# Altium footprint library QFN - QuadFlatNo-lead.PcbLib: 30 footprints (part 1 of 2)
Each footprint in its own frame and in the unit in brackets; x right, y up, seen from the top. Pads: shape width x height; smd on the part's side, far side on the other; paste and mask are expansions set on the pad; w line width, h text height; cw(c..) or ccw(c..) is an arc to the next point about the centre after c.
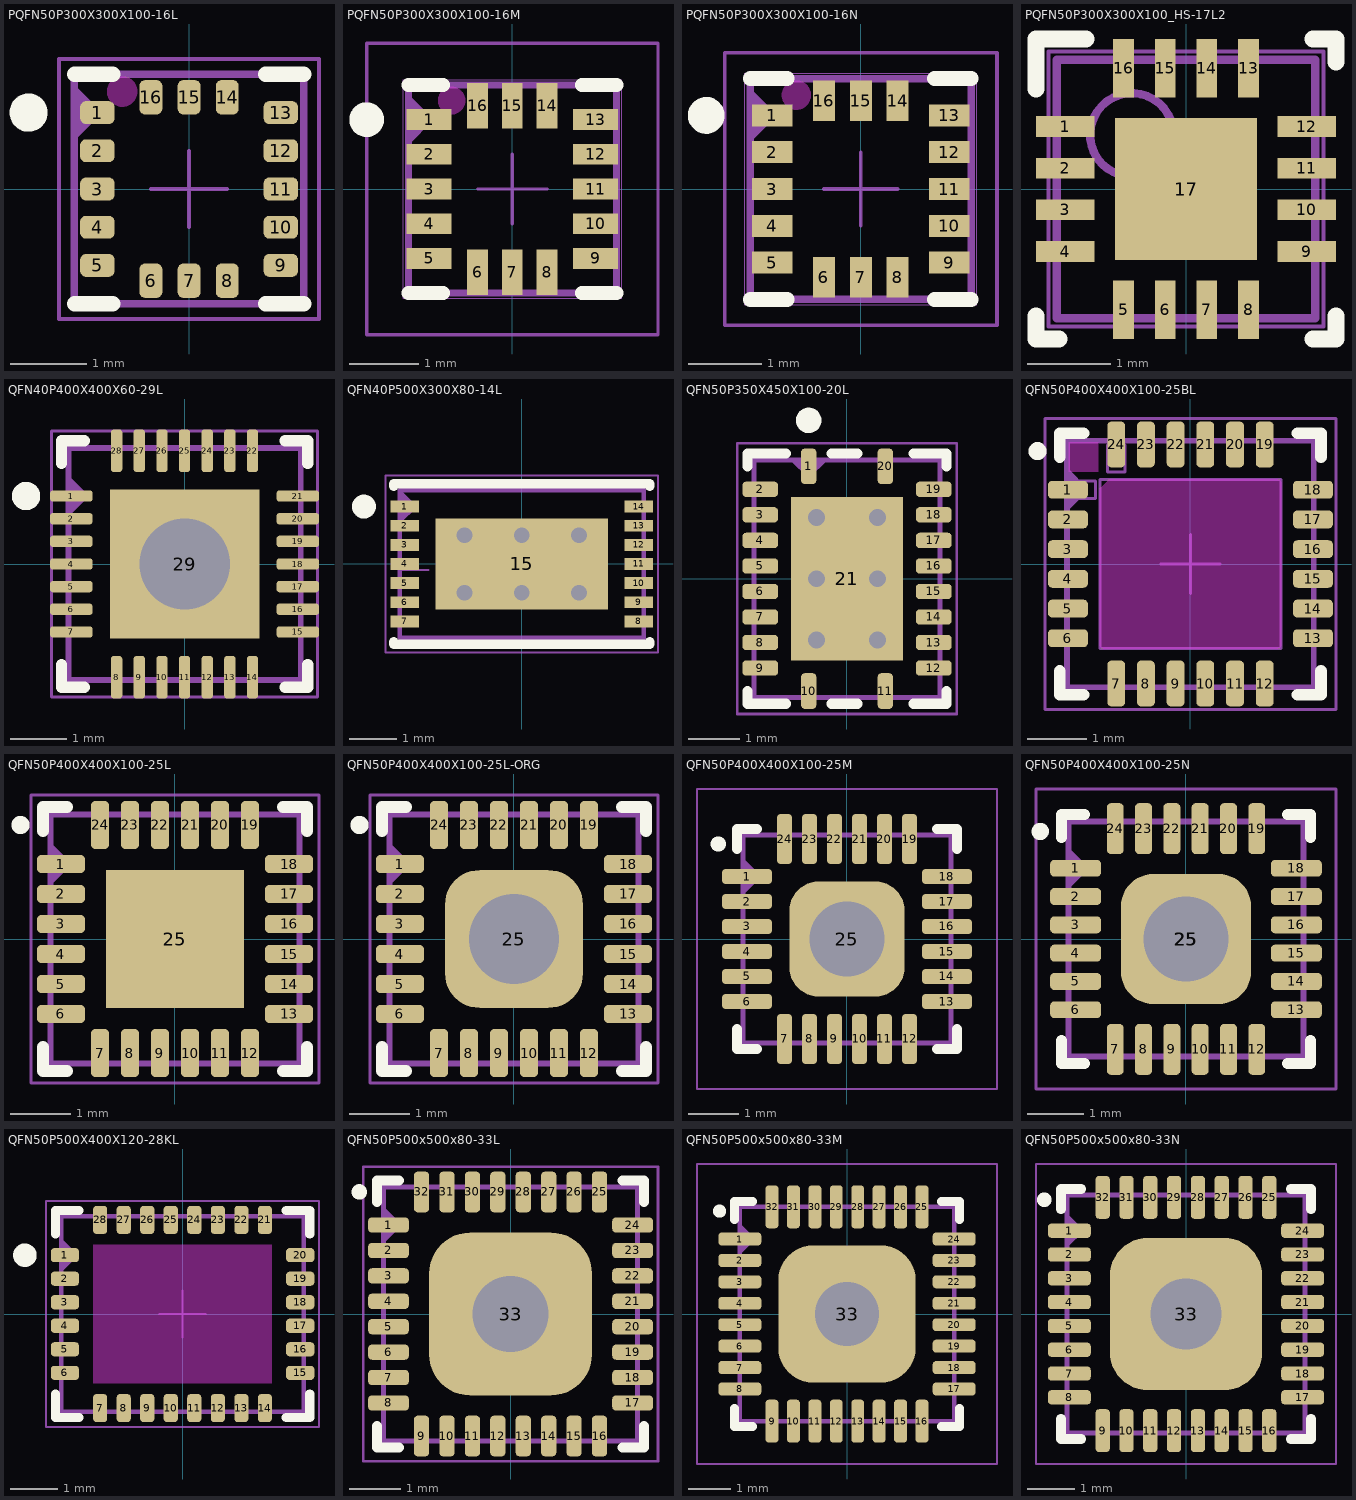
[diagram p0: the footprints below, top view; thin cyan lines are the x and y axes]

## PQFN50P300X300X100-16L [mm]
pads (16):
  rrect50% 0.45x0.3 smd: 1(-1.2,1) 2(-1.2,0.5) 3(-1.2,0) 4(-1.2,-0.5) 5(-1.2,-1) 9(1.2,-1) 10(1.2,-0.5) 11(1.2,0) 12(1.2,0.5) 13(1.2,1)
  rrect50% 0.3x0.45 smd: 6(-0.5,-1.2) 7(0,-1.2) 8(0.5,-1.2) 14(0.5,1.2) 15(0,1.2) 16(-0.5,1.2)
Top Layer keep-out:
  circle w0.2: c-0.875,1.275 r0.1
Top Overlay:
  circle w0.25: c-2.1,1 r0.125
  lines w0.2: -1.5,-1.5 -1,-1.5 ; -1.5,1.5 -1,1.5 ; 1,-1.5 1.5,-1.5 ; 1,1.5 1.5,1.5
TopBody:
  lines w0.1: -1.5,0.7 -1.2,1 -1.5,1.3 ; -1.5,0.8 -1.3,1 -1.5,1.2 ; -1.5,0.9 -1.4,1 -1.5,1.1 ; -1.5,-1.5 1.5,-1.5 1.5,1.5 -1.5,1.5 -1.5,-1.5
TopCourtyard:
  lines w0.05: -0.5,0 0,0 ; 0,-0.5 0,0 ; 0,0.5 0,0 ; 0.5,0 0,0 ; -1.7,-1.7 1.7,-1.7 1.7,1.7 -1.7,1.7 -1.7,-1.7
3D body: height 1, standoff 0, extent -1.5,-1.5 1.5,1.5

## PQFN50P300X300X100-16M [mm]
pads (16):
  rect 0.65x0.3 smd: 1(-1.2,1) 2(-1.2,0.5) 3(-1.2,0) 4(-1.2,-0.5) 5(-1.2,-1) 9(1.2,-1) 10(1.2,-0.5) 11(1.2,0) 12(1.2,0.5) 13(1.2,1)
  rect 0.3x0.65 smd: 6(-0.5,-1.2) 7(0,-1.2) 8(0.5,-1.2) 14(0.5,1.2) 15(0,1.2) 16(-0.5,1.2)
Top Layer keep-out:
  circle w0.2: c-0.875,1.275 r0.1
Top Overlay:
  circle w0.25: c-2.1,1 r0.125
  lines w0.2: -1.5,-1.5 -1,-1.5 ; -1.5,1.5 -1,1.5 ; 1,-1.5 1.5,-1.5 ; 1,1.5 1.5,1.5
TopBody:
  lines w0.1: -1.5,0.7 -1.2,1 -1.5,1.3 ; -1.5,0.8 -1.3,1 -1.5,1.2 ; -1.5,0.9 -1.4,1 -1.5,1.1 ; -1.5,-1.5 -1.5,1.5 1.5,1.5 1.5,-1.5 -1.5,-1.5
TopCourtyard:
  lines w0.05: -0.5,0 0,0 ; 0,-0.5 0,0 ; 0,0.5 0,0 ; 0.5,0 0,0 ; -2.1,-2.1 -2.1,2.1 2.1,2.1 2.1,-2.1 -2.1,-2.1
Mechanical 21:
  lines w0.001: -1.575,-1.575 -1.575,1.575 1.575,1.575 1.575,-1.575 -1.575,-1.575
3D body: height 1, standoff 0, extent -1.5,-1.5 1.5,1.5

## PQFN50P300X300X100-16N [mm]
pads (16):
  rect 0.55x0.3 smd: 1(-1.2,1) 2(-1.2,0.5) 3(-1.2,0) 4(-1.2,-0.5) 5(-1.2,-1) 9(1.2,-1) 10(1.2,-0.5) 11(1.2,0) 12(1.2,0.5) 13(1.2,1)
  rect 0.3x0.55 smd: 6(-0.5,-1.2) 7(0,-1.2) 8(0.5,-1.2) 14(0.5,1.2) 15(0,1.2) 16(-0.5,1.2)
Top Layer keep-out:
  circle w0.2: c-0.875,1.275 r0.1
Top Overlay:
  circle w0.25: c-2.1,1 r0.125
  lines w0.2: -1.5,-1.5 -1,-1.5 ; -1.5,1.5 -1,1.5 ; 1,-1.5 1.5,-1.5 ; 1,1.5 1.5,1.5
TopBody:
  lines w0.1: -1.5,0.7 -1.2,1 -1.5,1.3 ; -1.5,0.8 -1.3,1 -1.5,1.2 ; -1.5,0.9 -1.4,1 -1.5,1.1 ; -1.5,-1.5 -1.5,1.5 1.5,1.5 1.5,-1.5 -1.5,-1.5
TopCourtyard:
  lines w0.05: -0.5,0 0,0 ; 0,-0.5 0,0 ; 0,0.5 0,0 ; 0.5,0 0,0 ; -1.85,-1.85 -1.85,1.85 1.85,1.85 1.85,-1.85 -1.85,-1.85
Mechanical 21:
  lines w0.001: -1.575,-1.575 -1.575,1.575 1.575,1.575 1.575,-1.575 -1.575,-1.575
3D body: height 1, standoff 0, extent -1.5,-1.5 1.5,1.5

## PQFN50P300X300X100_HS-17L2 [mm] "PQFN, 16-Leads, Body 3.00x3.00mm, Pitch 0.50mm, Thermal Pad 1.70x1.70mm, IPC High Density"
height 1
pads (17):
  rect 0.7x0.25 smd: 1(-1.45,0.75) 2(-1.45,0.25) 3(-1.45,-0.25) 4(-1.45,-0.75) 9(1.45,-0.75) 10(1.45,-0.25) 11(1.45,0.25) 12(1.45,0.75)
  rect 0.25x0.7 smd: 5(-0.75,-1.45) 6(-0.25,-1.45) 7(0.25,-1.45) 8(0.75,-1.45) 13(0.75,1.45) 14(0.25,1.45) 15(-0.25,1.45) 16(-0.75,1.45)
  rect 1.7x1.7 smd: 17(0,0)
Top Overlay:
  lines w0.2: -1.8,-1.525 -1.8,-1.8 -1.525,-1.8 ; -1.8,1.2 -1.8,1.8 -1.2,1.8 ; 1.525,-1.8 1.8,-1.8 1.8,-1.525 ; 1.525,1.8 1.8,1.8 1.8,1.525
TopBody:
  circle w0.1: c-0.65,0.65 r0.5
  lines w0.1: -1.55,-1.55 -1.55,1.55 1.55,1.55 1.55,-1.55 -1.55,-1.55
TopCourtyard:
  lines w0.05: -1.65,-1.65 -1.65,1.65 1.65,1.65 1.65,-1.65 -1.65,-1.65
  lines w0.1: -0.5,0 0.5,0 ; 0,-0.5 0,0.5
3D body "PQFN50P300X300X100_HS-17L2.step": height 1, standoff 0, extent -1.55,-1.55 1.55,1.55

## QFN40P400X400X60-29L [mm] "QFN, 29-Leads with tab, Body 4.1x4.1mm (max), Pitch 0.40mm, IPC High Density"
height 0.6
pads (29):
  rrect50% 0.75x0.2 smd mask+0.05: 1(-2,1.2) 2(-2,0.8) 3(-2,0.4) 4(-2,0) 5(-2,-0.4) 6(-2,-0.8) 7(-2,-1.2) 15(2,-1.2) 16(2,-0.8) 17(2,-0.4) 18(2,0) 19(2,0.4) 20(2,0.8) 21(2,1.2)
  rrect50% 0.2x0.75 smd mask+0.05: 8(-1.2,-2) 9(-0.8,-2) 10(-0.4,-2) 11(0,-2) 12(0.4,-2) 13(0.8,-2) 14(1.2,-2) 22(1.2,2) 23(0.8,2) 24(0.4,2) 25(0,2) 26(-0.4,2) 27(-0.8,2) 28(-1.2,2)
  rect 2.64x2.64 smd mask+0.05: 29(0,0)
via 0,0 diameter 2 hole 1.6
Top Overlay:
  circle w0.25: c-2.8,1.2 r0.125
  lines w0.2: -2.175,-1.775 -2.175,-2.175 -1.775,-2.175 ; -2.175,1.775 -2.175,2.175 -1.775,2.175 ; 1.775,-2.175 2.175,-2.175 2.175,-1.775 ; 1.775,2.175 2.175,2.175 2.175,1.775
TopBody:
  lines w0.1: -2.05,0.9 -1.75,1.2 -2.05,1.5 ; -2.05,1 -1.85,1.2 -2.05,1.4 ; -2.05,1.1 -1.95,1.2 -2.05,1.3 ; -2.05,-2.05 2.05,-2.05 2.05,2.05 -2.05,2.05 -2.05,-2.05
TopCourtyard:
  lines w0.05: -0.5,0 0,0 ; 0,-0.5 0,0 ; 0,0.5 0,0 ; 0.5,0 0,0 ; -2.35,-2.35 2.35,-2.35 2.35,2.35 -2.35,2.35 -2.35,-2.35
3D body: height 0.6, standoff 0.05, extent -2.05,-2.05 2.05,2.05

## QFN40P500X300X80-14L [mm] "QFN, 14-Leads, Body 3.1x5.1mm (max), Pitch 0.40mm, IPC High Density"
height 0.8
pads (15):
  rect 0.6x0.25 smd: 1(-2.45,1.2) 2(-2.45,0.8) 3(-2.45,0.4) 4(-2.45,0) 5(-2.45,-0.4) 6(-2.45,-0.8) 7(-2.45,-1.2) 8(2.45,-1.2) 9(2.45,-0.8) 10(2.45,-0.4) 11(2.45,0) 12(2.45,0.4) 13(2.45,0.8) 14(2.45,1.2)
  rect 3.6x1.9 smd: 15(0,0)
via 1.2,-0.6 diameter 0.66 hole 0.33
via 0,-0.6 diameter 0.66 hole 0.33
via -1.2,-0.6 diameter 0.66 hole 0.33
via 1.2,0.6 diameter 0.66 hole 0.33
via 0,0.6 diameter 0.66 hole 0.33
via -1.2,0.6 diameter 0.66 hole 0.33
Top Overlay:
  circle w0.25: c-3.3,1.2 r0.125
  lines w0.2: -2.675,-1.625 -2.675,-1.675 2.675,-1.675 2.675,-1.625 ; -2.675,1.625 -2.675,1.675 2.675,1.675 2.675,1.625
Notes:
  lines w0.05: -2.55,0.125 -2.55,-0.125 -1.95,-0.125
TopBody:
  lines w0.1: -2.55,0.9 -2.25,1.2 -2.55,1.5 ; -2.55,1 -2.35,1.2 -2.55,1.4 ; -2.55,1.1 -2.45,1.2 -2.55,1.3 ; -2.55,-1.55 2.55,-1.55 2.55,1.55 -2.55,1.55 -2.55,-1.55
TopCourtyard:
  lines w0.05: -0.5,0 0.5,0 ; 0,-0.5 0,0.5 ; -2.85,-1.85 2.85,-1.85 2.85,1.85 -2.85,1.85 -2.85,-1.85
3D body: height 0.8, standoff 0.1, extent -2.55,-1.55 2.55,1.55

## QFN50P350X450X100-20L [mm] "QFN, 20-Leads, Body 4.7x3.7mm (max), Pitch 1.50mm, Pitch1 0.50mm, IPC High Density"
height 1
pads (21):
  rrect50% 0.3x0.7 smd: 1(-0.75,2.2) 10(-0.75,-2.2) 11(0.75,-2.2) 20(0.75,2.2)
  rrect50% 0.7x0.3 smd: 2(-1.7,1.75) 3(-1.7,1.25) 4(-1.7,0.75) 5(-1.7,0.25) 6(-1.7,-0.25) 7(-1.7,-0.75) 8(-1.7,-1.25) 9(-1.7,-1.75) 12(1.7,-1.75) 13(1.7,-1.25) 14(1.7,-0.75) 15(1.7,-0.25) 16(1.7,0.25) 17(1.7,0.75) 18(1.7,1.25) 19(1.7,1.75)
  rect 2.2x3.2 smd: 21(0,0)
via 0.6,-1.2 diameter 0.66 hole 0.33
via -0.6,-1.2 diameter 0.66 hole 0.33
via 0.6,0 diameter 0.66 hole 0.33
via -0.6,0 diameter 0.66 hole 0.33
via 0.6,1.2 diameter 0.66 hole 0.33
via -0.6,1.2 diameter 0.66 hole 0.33
Top Overlay:
  circle w0.25: c-0.75,3.1 r0.125
  lines w0.2: -1.95,-2.2 -1.95,-2.45 -1.2,-2.45 ; -1.95,2.2 -1.95,2.45 -1.2,2.45 ; -0.3,-2.45 0.2,-2.45 ; -0.3,2.45 0.2,2.45 ; 1.3,-2.45 1.95,-2.45 1.95,-2.2 ; 1.3,2.45 1.95,2.45 1.95,2.2
TopBody:
  lines w0.1: -1.05,2.325 -0.75,2.025 -0.45,2.325 ; -0.95,2.325 -0.75,2.125 -0.55,2.325 ; -0.85,2.325 -0.75,2.225 -0.65,2.325 ; -1.825,-2.325 1.825,-2.325 1.825,2.325 -1.825,2.325 -1.825,-2.325
TopCourtyard:
  lines w0.05: -0.5,0 0,0 ; 0,-0.5 0,0 ; 0,0.5 0,0 ; 0.5,0 0,0 ; -2.15,-2.65 2.15,-2.65 2.15,2.65 -2.15,2.65 -2.15,-2.65
3D body: height 1, standoff 0.05, extent -1.825,-2.325 1.825,2.325

## QFN50P400X400X100-25BL [mm] "QFN, 25-Leads with tab, Body 4x4x1mm, Pitch 0.5mm, IPC High Density, Special IMU-3000 InvenSense"
height 1
pads (24):
  rrect50% 0.675x0.3 smd: 1(-2.063,1.25) 2(-2.063,0.75) 3(-2.063,0.25) 4(-2.063,-0.25) 5(-2.063,-0.75) 6(-2.063,-1.25) 13(2.063,-1.25) 14(2.063,-0.75) 15(2.063,-0.25) 16(2.063,0.25) 17(2.063,0.75) 18(2.063,1.25)
  rrect50% 0.3x0.775 smd: 7(-1.25,-2.013) 8(-0.75,-2.013) 9(-0.25,-2.013) 10(0.25,-2.013) 11(0.75,-2.013) 12(1.25,-2.013) 19(1.25,2.013) 20(0.75,2.013) 21(0.25,2.013) 22(-0.25,2.013) 23(-0.75,2.013) 24(-1.25,2.013)
Top Layer keep-out:
  rectangle: -2.05,1.55 -1.55,2.05
  region: -1.525,1.265 -1.365,1.425 1.475,1.429 1.513,1.413 1.529,1.375 1.525,1.375 1.529,-1.375 1.513,-1.413 1.475,-1.429 1.475,-1.425 -1.475,-1.429 -1.513,-1.413 -1.529,-1.375 -1.525,-1.375
Top Overlay:
  circle w0.254: c-2.575,1.9 r0.025
  lines w0.2: -2.2,-1.8 -2.2,-2.2 -1.8,-2.2 ; -2.2,1.8 -2.2,2.2 -1.8,2.2 ; 1.8,-2.2 2.2,-2.2 2.2,-1.8 ; 1.8,2.2 2.2,2.2 2.2,1.8
Notes:
  lines w0.05: -2,1.1 -1.6,1.1 -1.6,1.4 -2,1.4 -2,1.1 ; -1.525,-1.425 1.525,-1.425 1.525,1.425 -1.525,1.425 -1.525,-1.425 ; -1.4,1.55 -1.4,2 -1.1,2 -1.1,1.55 -1.4,1.55
TopBody:
  lines w0.1: -2.075,0.95 -1.775,1.25 -2.075,1.55 ; -2.075,1.05 -1.875,1.25 -2.075,1.45 ; -2.075,1.15 -1.975,1.25 -2.075,1.35 ; -2.075,-2.075 2.075,-2.075 2.075,2.075 -2.075,2.075 -2.075,-2.075
TopCourtyard:
  lines w0.05: -0.5,0 0,0 ; 0,-0.5 0,0 ; 0,0.5 0,0 ; 0.5,0 0,0 ; -2.45,-2.45 2.45,-2.45 2.45,2.45 -2.45,2.45 -2.45,-2.45
3D body: height 1, standoff 0, extent -2.075,-2.075 2.075,2.075

## QFN50P400X400X100-25L [mm] "QFN, 25-Leads with tab, Body 4x4x1mm, Pitch 0.5mm, IPC High Density"
height 1
pads (25):
  rrect50% 0.8x0.3 smd: 1(-1.9,1.25) 2(-1.9,0.75) 3(-1.9,0.25) 4(-1.9,-0.25) 5(-1.9,-0.75) 6(-1.9,-1.25) 13(1.9,-1.25) 14(1.9,-0.75) 15(1.9,-0.25) 16(1.9,0.25) 17(1.9,0.75) 18(1.9,1.25)
  rrect50% 0.3x0.8 smd: 7(-1.25,-1.9) 8(-0.75,-1.9) 9(-0.25,-1.9) 10(0.25,-1.9) 11(0.75,-1.9) 12(1.25,-1.9) 19(1.25,1.9) 20(0.75,1.9) 21(0.25,1.9) 22(-0.25,1.9) 23(-0.75,1.9) 24(-1.25,1.9)
  rect 2.3x2.3 smd paste-2: 25(0,0)
Top Overlay:
  circle w0.254: c-2.575,1.9 r0.025
  lines w0.2: -2.2,-1.8 -2.2,-2.2 -1.8,-2.2 ; -2.2,1.8 -2.2,2.2 -1.8,2.2 ; 1.8,-2.2 2.2,-2.2 2.2,-1.8 ; 1.8,2.2 2.2,2.2 2.2,1.8
Top Paste:
  region: -0.15,1.1 -1.1,1.1 -1.1,0.15 -0.15,0.15
  rectangle: 0.15,0.15 1.1,1.1
  rectangle: 0.15,-1.1 1.1,-0.15
  region: -0.15,-0.15 -1.1,-0.15 -1.1,-1.1 -0.15,-1.1
TopBody:
  lines w0.1: -2.075,0.95 -1.775,1.25 -2.075,1.55 ; -2.075,1.05 -1.875,1.25 -2.075,1.45 ; -2.075,1.15 -1.975,1.25 -2.075,1.35 ; -2.075,-2.075 -2.075,2.075 2.075,2.075 2.075,-2.075 -2.075,-2.075
TopCourtyard:
  lines w0.05: -0.5,0 0,0 ; 0,-0.5 0,0 ; 0,0.5 0,0 ; 0.5,0 0,0 ; -2.4,-2.4 -2.4,2.4 2.4,2.4 2.4,-2.4 -2.4,-2.4
3D body: height 1, standoff 0, extent -2.075,-2.075 2.075,2.075

## QFN50P400X400X100-25L-ORG [mm] "QFN, 25-Leads with tab, Body 4x4x1mm, Pitch 0.5mm, IPC High Density"
height 1
pads (25):
  rrect50% 0.8x0.3 smd: 1(-1.9,1.25) 2(-1.9,0.75) 3(-1.9,0.25) 4(-1.9,-0.25) 5(-1.9,-0.75) 6(-1.9,-1.25) 13(1.9,-1.25) 14(1.9,-0.75) 15(1.9,-0.25) 16(1.9,0.25) 17(1.9,0.75) 18(1.9,1.25)
  rrect50% 0.3x0.8 smd: 7(-1.25,-1.9) 8(-0.75,-1.9) 9(-0.25,-1.9) 10(0.25,-1.9) 11(0.75,-1.9) 12(1.25,-1.9) 19(1.25,1.9) 20(0.75,1.9) 21(0.25,1.9) 22(-0.25,1.9) 23(-0.75,1.9) 24(-1.25,1.9)
  rrect50% 2.3x2.3 / inner round 2.3 / far side round 2.3 hole 1.5: 25(0,0)
Top Overlay:
  circle w0.254: c-2.575,1.9 r0.025
  lines w0.2: -2.2,-1.8 -2.2,-2.2 -1.8,-2.2 ; -2.2,1.8 -2.2,2.2 -1.8,2.2 ; 1.8,-2.2 2.2,-2.2 2.2,-1.8 ; 1.8,2.2 2.2,2.2 2.2,1.8
TopBody:
  lines w0.1: -2.075,0.95 -1.775,1.25 -2.075,1.55 ; -2.075,1.05 -1.875,1.25 -2.075,1.45 ; -2.075,1.15 -1.975,1.25 -2.075,1.35 ; -2.075,-2.075 2.075,-2.075 2.075,2.075 -2.075,2.075 -2.075,-2.075
TopCourtyard:
  lines w0.05: -0.5,0 0,0 ; 0,-0.5 0,0 ; 0,0.5 0,0 ; 0.5,0 0,0 ; -2.4,-2.4 2.4,-2.4 2.4,2.4 -2.4,2.4 -2.4,-2.4
3D body: height 1, standoff 0, extent -2.075,-2.075 2.075,2.075

## QFN50P400X400X100-25M [mm] "QFN, 25-Leads with tab, Body 4x4x1mm, Pitch 0.5mm, IPC Low Density"
height 1
pads (25):
  rrect50% 1x0.3 smd: 1(-2,1.25) 2(-2,0.75) 3(-2,0.25) 4(-2,-0.25) 5(-2,-0.75) 6(-2,-1.25) 13(2,-1.25) 14(2,-0.75) 15(2,-0.25) 16(2,0.25) 17(2,0.75) 18(2,1.25)
  rrect50% 0.3x1 smd: 7(-1.25,-2) 8(-0.75,-2) 9(-0.25,-2) 10(0.25,-2) 11(0.75,-2) 12(1.25,-2) 19(1.25,2) 20(0.75,2) 21(0.25,2) 22(-0.25,2) 23(-0.75,2) 24(-1.25,2)
  rrect50% 2.3x2.3 / inner round 2.3 / far side round 2.3 hole 1.5: 25(0,0)
Top Overlay:
  circle w0.254: c-2.575,1.9 r0.025
  lines w0.2: -2.2,-1.8 -2.2,-2.2 -1.8,-2.2 ; -2.2,1.8 -2.2,2.2 -1.8,2.2 ; 1.8,-2.2 2.2,-2.2 2.2,-1.8 ; 1.8,2.2 2.2,2.2 2.2,1.8
TopBody:
  lines w0.1: -2.075,0.95 -1.775,1.25 -2.075,1.55 ; -2.075,1.05 -1.875,1.25 -2.075,1.45 ; -2.075,1.15 -1.975,1.25 -2.075,1.35 ; -2.075,-2.075 -2.075,2.075 2.075,2.075 2.075,-2.075 -2.075,-2.075
TopCourtyard:
  lines w0.05: -0.5,0 0,0 ; 0,-0.5 0,0 ; 0,0.5 0,0 ; 0.5,0 0,0 ; -3,-3 -3,3 3,3 3,-3 -3,-3
3D body: height 1, standoff 0, extent -2.075,-2.075 2.075,2.075

## QFN50P400X400X100-25N [mm] "QFN, 25-Leads with tab, Body 4x4x1mm, Pitch 0.5mm, IPC Medium Density"
height 1
pads (26):
  rrect50% 0.9x0.3 smd: 1(-1.95,1.25) 2(-1.95,0.75) 3(-1.95,0.25) 4(-1.95,-0.25) 5(-1.95,-0.75) 6(-1.95,-1.25) 13(1.95,-1.25) 14(1.95,-0.75) 15(1.95,-0.25) 16(1.95,0.25) 17(1.95,0.75) 18(1.95,1.25)
  rrect50% 0.3x0.9 smd: 7(-1.25,-1.95) 8(-0.75,-1.95) 9(-0.25,-1.95) 10(0.25,-1.95) 11(0.75,-1.95) 12(1.25,-1.95) 19(1.25,1.95) 20(0.75,1.95) 21(0.25,1.95) 22(-0.25,1.95) 23(-0.75,1.95) 24(-1.25,1.95)
  rrect50% 2.3x2.3 / inner round 2.3 / far side round 2.3 hole 1.5: 25(0,0)
  rrect50% 2.3x2.3 smd: 25(0,0)
Top Overlay:
  circle w0.254: c-2.575,1.9 r0.025
  lines w0.2: -2.2,-1.8 -2.2,-2.2 -1.8,-2.2 ; -2.2,1.8 -2.2,2.2 -1.8,2.2 ; 1.8,-2.2 2.2,-2.2 2.2,-1.8 ; 1.8,2.2 2.2,2.2 2.2,1.8
TopBody:
  lines w0.1: -2.075,0.95 -1.775,1.25 -2.075,1.55 ; -2.075,1.05 -1.875,1.25 -2.075,1.45 ; -2.075,1.15 -1.975,1.25 -2.075,1.35 ; -2.075,-2.075 2.075,-2.075 2.075,2.075 -2.075,2.075 -2.075,-2.075
TopCourtyard:
  lines w0.05: -0.5,0 0,0 ; 0,-0.5 0,0 ; 0,0.5 0,0 ; 0.5,0 0,0 ; -2.65,-2.65 2.65,-2.65 2.65,2.65 -2.65,2.65 -2.65,-2.65
3D body: height 1, standoff 0, extent -2.075,-2.075 2.075,2.075

## QFN50P500X400X120-28KL [mm] "QFN, 28-Leads, Body 4.2x5.2mm (max), Pitch 0.50mm, IPC High Density, Tab KeepOut"
height 1.2
pads (28):
  rrect50% 0.6x0.3 smd: 1(-2.5,1.25) 2(-2.5,0.75) 3(-2.5,0.25) 4(-2.5,-0.25) 5(-2.5,-0.75) 6(-2.5,-1.25) 15(2.5,-1.25) 16(2.5,-0.75) 17(2.5,-0.25) 18(2.5,0.25) 19(2.5,0.75) 20(2.5,1.25)
  rrect50% 0.3x0.6 smd: 7(-1.75,-2) 8(-1.25,-2) 9(-0.75,-2) 10(-0.25,-2) 11(0.25,-2) 12(0.75,-2) 13(1.25,-2) 14(1.75,-2) 21(1.75,2) 22(1.25,2) 23(0.75,2) 24(0.25,2) 25(-0.25,2) 26(-0.75,2) 27(-1.25,2) 28(-1.75,2)
Top Layer keep-out:
  rectangle: -1.9,-1.475 1.9,1.475
Top Overlay:
  circle w0.25: c-3.35,1.25 r0.125
  lines w0.2: -2.7,-1.7 -2.7,-2.2 -2.2,-2.2 ; -2.7,1.7 -2.7,2.2 -2.2,2.2 ; 2.2,-2.2 2.7,-2.2 2.7,-1.7 ; 2.2,2.2 2.7,2.2 2.7,1.7
TopBody:
  lines w0.1: -2.575,0.95 -2.275,1.25 -2.575,1.55 ; -2.575,1.05 -2.375,1.25 -2.575,1.45 ; -2.575,1.15 -2.475,1.25 -2.575,1.35 ; -2.575,-2.075 -2.575,2.075 2.575,2.075 2.575,-2.075 -2.575,-2.075
TopCourtyard:
  lines w0.05: -0.5,0 0,0 ; 0,-0.5 0,0 ; 0,0.5 0,0 ; 0.5,0 0,0 ; -2.9,-2.4 -2.9,2.4 2.9,2.4 2.9,-2.4 -2.9,-2.4
3D body: height 1.2, standoff 0.05, extent -2.575,-2.075 2.575,2.075

## QFN50P500x500x80-33L [mm] "QFN, 33-Leads with tab, Body 5x5x0.8 mm, Pitch 0.5mm, IPC High Density"
height 0.85
pads (33):
  rrect50% 0.8x0.3 smd: 1(-2.4,1.75) 2(-2.4,1.25) 3(-2.4,0.75) 4(-2.4,0.25) 5(-2.4,-0.25) 6(-2.4,-0.75) 7(-2.4,-1.25) 8(-2.4,-1.75) 17(2.4,-1.75) 18(2.4,-1.25) 19(2.4,-0.75) 20(2.4,-0.25) 21(2.4,0.25) 22(2.4,0.75) 23(2.4,1.25) 24(2.4,1.75)
  rrect50% 0.3x0.8 smd: 9(-1.75,-2.4) 10(-1.25,-2.4) 11(-0.75,-2.4) 12(-0.25,-2.4) 13(0.25,-2.4) 14(0.75,-2.4) 15(1.25,-2.4) 16(1.75,-2.4) 25(1.75,2.4) 26(1.25,2.4) 27(0.75,2.4) 28(0.25,2.4) 29(-0.25,2.4) 30(-0.75,2.4) 31(-1.25,2.4) 32(-1.75,2.4)
  rrect50% 3.2x3.2 / inner round 2.3 / far side round 2.3 hole 1.5: 33(0,0)
Top Overlay:
  circle w0.254: c-2.975,2.4 r0.025
  lines w0.2: -2.625,-2.2 -2.625,-2.625 -2.2,-2.625 ; -2.625,2.2 -2.625,2.625 -2.2,2.625 ; 2.2,-2.625 2.625,-2.625 2.625,-2.2 ; 2.2,2.625 2.625,2.625 2.625,2.2
TopBody:
  lines w0.1: -2.5,1.45 -2.2,1.75 -2.5,2.05 ; -2.5,1.55 -2.3,1.75 -2.5,1.95 ; -2.5,1.65 -2.4,1.75 -2.5,1.85 ; -2.5,-2.5 -2.5,2.5 2.5,2.5 2.5,-2.5 -2.5,-2.5
TopCourtyard:
  lines w0.05: -0.5,0 0,0 ; 0,-0.5 0,0 ; 0,0.5 0,0 ; 0.5,0 0,0 ; -2.9,-2.9 -2.9,2.9 2.9,2.9 2.9,-2.9 -2.9,-2.9
3D body: height 0.85, standoff 0, extent -2.5,-2.5 2.5,2.5

## QFN50P500x500x80-33M [mm] "QFN, 33-Leads with tab, Body 5x5x0.8 mm, Pitch 0.5mm, IPC Low Density"
height 0.85
pads (33):
  rrect50% 1x0.3 smd: 1(-2.5,1.75) 2(-2.5,1.25) 3(-2.5,0.75) 4(-2.5,0.25) 5(-2.5,-0.25) 6(-2.5,-0.75) 7(-2.5,-1.25) 8(-2.5,-1.75) 17(2.5,-1.75) 18(2.5,-1.25) 19(2.5,-0.75) 20(2.5,-0.25) 21(2.5,0.25) 22(2.5,0.75) 23(2.5,1.25) 24(2.5,1.75)
  rrect50% 0.3x1 smd: 9(-1.75,-2.5) 10(-1.25,-2.5) 11(-0.75,-2.5) 12(-0.25,-2.5) 13(0.25,-2.5) 14(0.75,-2.5) 15(1.25,-2.5) 16(1.75,-2.5) 25(1.75,2.5) 26(1.25,2.5) 27(0.75,2.5) 28(0.25,2.5) 29(-0.25,2.5) 30(-0.75,2.5) 31(-1.25,2.5) 32(-1.75,2.5)
  rrect50% 3.2x3.2 / inner round 2.3 / far side round 2.3 hole 1.5: 33(0,0)
Top Overlay:
  circle w0.254: c-2.975,2.4 r0.025
  lines w0.2: -2.625,-2.2 -2.625,-2.625 -2.2,-2.625 ; -2.625,2.2 -2.625,2.625 -2.2,2.625 ; 2.2,-2.625 2.625,-2.625 2.625,-2.2 ; 2.2,2.625 2.625,2.625 2.625,2.2
TopBody:
  lines w0.1: -2.5,1.45 -2.2,1.75 -2.5,2.05 ; -2.5,1.55 -2.3,1.75 -2.5,1.95 ; -2.5,1.65 -2.4,1.75 -2.5,1.85 ; -2.5,-2.5 2.5,-2.5 2.5,2.5 -2.5,2.5 -2.5,-2.5
TopCourtyard:
  lines w0.05: -0.5,0 0,0 ; 0,-0.5 0,0 ; 0,0.5 0,0 ; 0.5,0 0,0 ; -3.5,-3.5 -3.5,3.5 3.5,3.5 3.5,-3.5 -3.5,-3.5
3D body: height 0.85, standoff 0, extent -2.5,-2.5 2.5,2.5

## QFN50P500x500x80-33N [mm] "QFN, 33-Leads with tab, Body 5x5x0.8 mm, Pitch 0.5mm, IPC Medium Density"
height 0.85
pads (33):
  rrect50% 0.9x0.3 smd: 1(-2.45,1.75) 2(-2.45,1.25) 3(-2.45,0.75) 4(-2.45,0.25) 5(-2.45,-0.25) 6(-2.45,-0.75) 7(-2.45,-1.25) 8(-2.45,-1.75) 17(2.45,-1.75) 18(2.45,-1.25) 19(2.45,-0.75) 20(2.45,-0.25) 21(2.45,0.25) 22(2.45,0.75) 23(2.45,1.25) 24(2.45,1.75)
  rrect50% 0.3x0.9 smd: 9(-1.75,-2.45) 10(-1.25,-2.45) 11(-0.75,-2.45) 12(-0.25,-2.45) 13(0.25,-2.45) 14(0.75,-2.45) 15(1.25,-2.45) 16(1.75,-2.45) 25(1.75,2.45) 26(1.25,2.45) 27(0.75,2.45) 28(0.25,2.45) 29(-0.25,2.45) 30(-0.75,2.45) 31(-1.25,2.45) 32(-1.75,2.45)
  rrect50% 3.2x3.2 / inner round 2.3 / far side round 2.3 hole 1.5: 33(0,0)
Top Overlay:
  circle w0.254: c-2.975,2.4 r0.025
  lines w0.2: -2.625,-2.2 -2.625,-2.625 -2.2,-2.625 ; -2.625,2.2 -2.625,2.625 -2.2,2.625 ; 2.2,-2.625 2.625,-2.625 2.625,-2.2 ; 2.2,2.625 2.625,2.625 2.625,2.2
TopBody:
  lines w0.1: -2.5,1.45 -2.2,1.75 -2.5,2.05 ; -2.5,1.55 -2.3,1.75 -2.5,1.95 ; -2.5,1.65 -2.4,1.75 -2.5,1.85 ; -2.5,-2.5 -2.5,2.5 2.5,2.5 2.5,-2.5 -2.5,-2.5
TopCourtyard:
  lines w0.05: -0.5,0 0,0 ; 0,-0.5 0,0 ; 0,0.5 0,0 ; 0.5,0 0,0 ; -3.15,-3.15 3.15,-3.15 3.15,3.15 -3.15,3.15 -3.15,-3.15
3D body: height 0.85, standoff 0, extent -2.5,-2.5 2.5,2.5